# Altium footprint library RPI_CAMERA.PcbLib: 1 footprints
Each footprint in its own frame and in the unit in brackets; x right, y up, seen from the top. Pads: shape width x height; smd on the part's side, far side on the other; paste and mask are expansions set on the pad; w line width, h text height; cw(c..) or ccw(c..) is an arc to the next point about the centre after c.
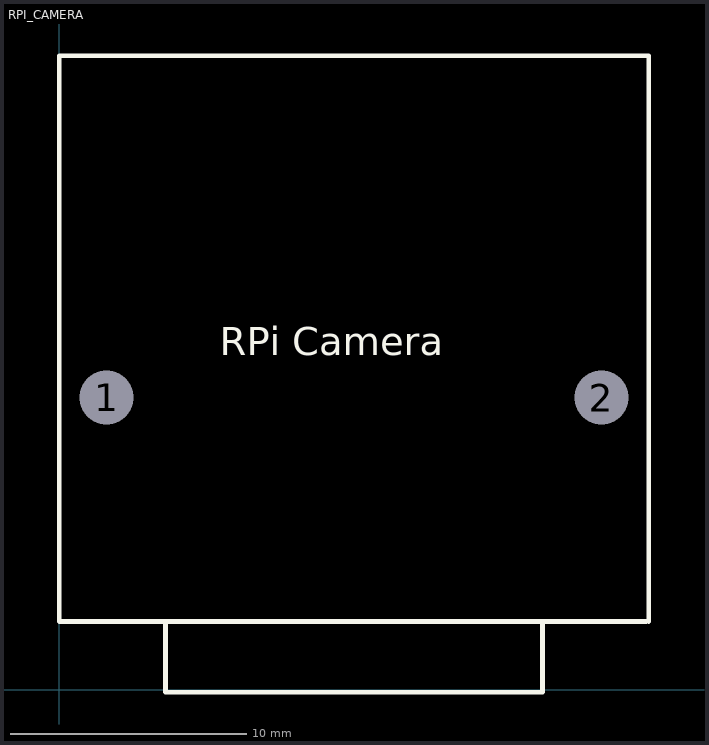
[diagram p0: the footprint, top view; thin cyan lines are the x and y axes]

## RPI_CAMERA [mm]
pads (2):
  round 2.1 hole 2.3 unplated: 1(2,12.4) 2(23,12.4)
Top Overlay:
  lines w0.2: 4.5,2.9 4.5,-0.1 20.5,-0.1 20.5,2.9 ; 24.9,2.9 0,2.9 0,26.9 24.929,26.9 ; 25,2.9 25,26.9
  text "RPi Camera" at 6.8,14.2 h1.2